# EAGLE library part MCP3424-E/ST (library components)
Analog-to-Digital Converter
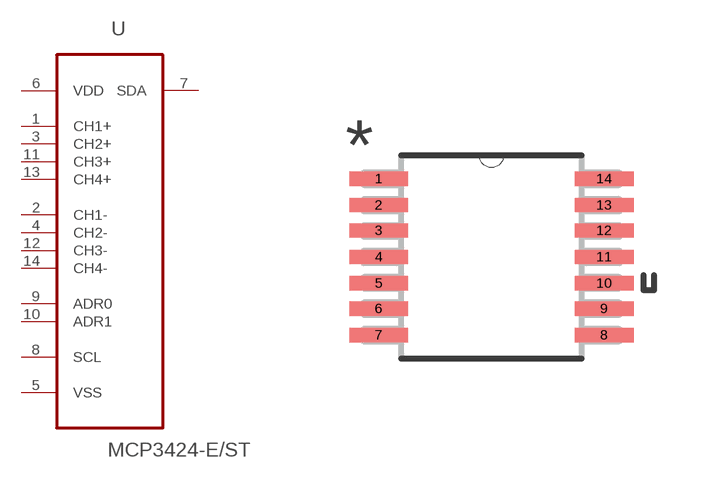
[diagram p7: symbol with the pads of SOP65P640X120-14N; footprint SOP65P640X120-14N]

Designator prefix -

## MCP3424-E/ST (MPN: MCP3424-E/ST; OC_FARNELL: 1630423; OC_NEWARK: 54M4872; PACKAGE: SOP-14; SUPPLIER: Microchip)  [SOP65P640X120-14N]
1  CH1+  in
2  CH1-  in
3  CH2+  in
4  CH2-  in
5  VSS  pwr
6  VDD  pwr
7  SDA
8  SCL  in
9  ADR0  in
10  ADR1  in
11  CH3+  in
12  CH3-  in
13  CH4+  in
14  CH4-  in

## Footprint SOP65P640X120-14N (pad centres in mm)
smd 1.473 x 0.356: 1 -2.819,1.956; 2 -2.819,1.295; 3 -2.819,0.66; 4 -2.819,0; 5 -2.819,-0.66; 6 -2.819,-1.295; 7 -2.819,-1.956; 8 2.819,-1.956; 9 2.819,-1.295; 10 2.819,-0.66; 11 2.819,0; 12 2.819,0.66; 13 2.819,1.295; 14 2.819,1.956